# Altium footprint library General.PcbLib: 53 footprints (part 3 of 4)
Each footprint in its own frame and in the unit in brackets; x right, y up, seen from the top. Pads: shape width x height; smd on the part's side, far side on the other; paste and mask are expansions set on the pad; w line width, h text height; cw(c..) or ccw(c..) is an arc to the next point about the centre after c.
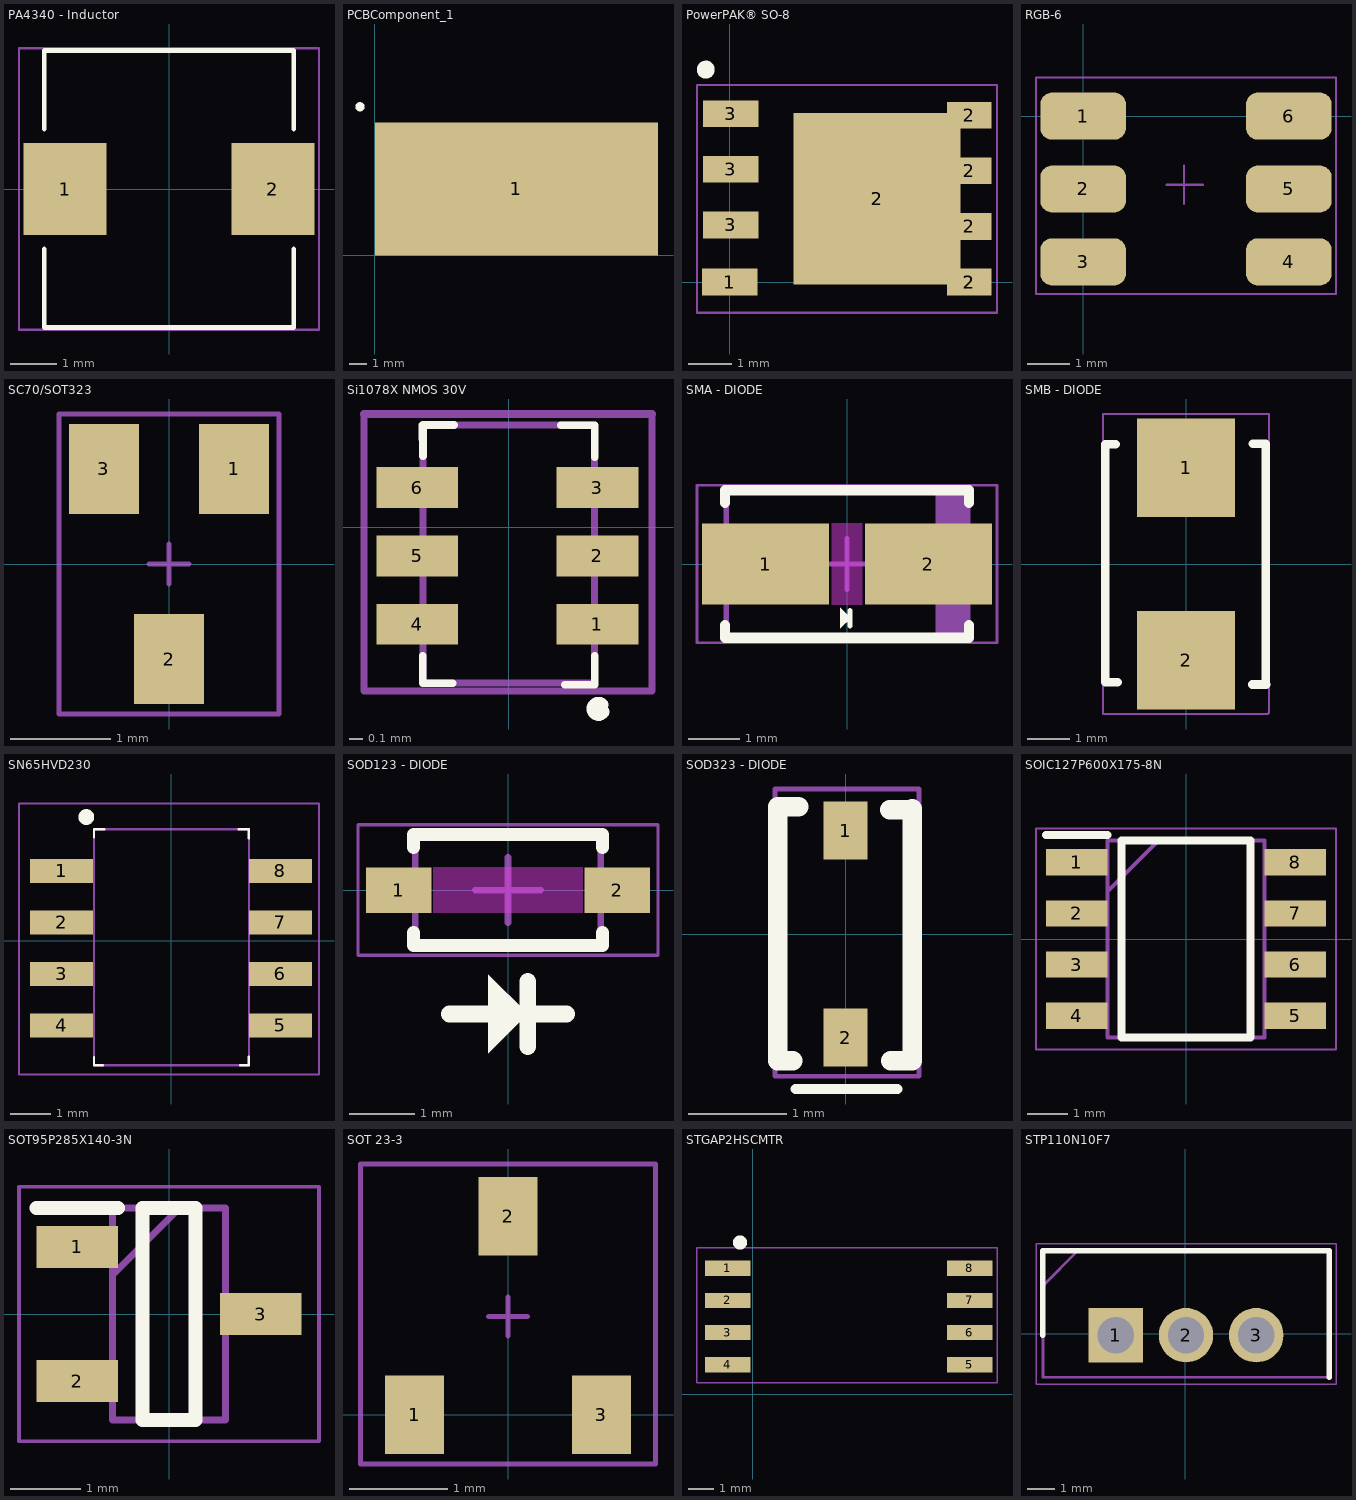
[diagram p2: the footprints below, top view; thin cyan lines are the x and y axes]

## PA4340 - Inductor [mm]
pads (2):
  rect 1.8x2 smd: 1(-2.25,0) 2(2.25,0)
Top Overlay:
  lines w0.1: -2.7,-1.3 -2.7,-3 2.7,-3 2.7,-1.3 ; -2.7,1.3 -2.7,3 2.7,3 2.7,1.3
Mechanical 15:
  lines w0.05: -3.25,-3.05 3.25,-3.05 3.25,3.05 -3.25,3.05 -3.25,0.4 -3.25,-3.05
3D body "User Library-PA4340-PM4340.STEP": height 2.7, standoff -0.15, extent -3,-2.7 3,2.7

## PCBComponent_1 [mm]
pads (1):
  rect 16.19x7.6 smd: 1(8.095,3.8)
Top Overlay:
  circle w0.3: c-0.85,8.5 r0.112

## PowerPAK® SO-8 [mm] "POWER MOSFET"
pads (10):
  rect 1.27x0.61 smd: 1(0,0) 3(0.017,1.305) 3(0.017,2.575) 3(0.017,3.845)
  rect 3.81x3.91 smd: 2(3.36,1.905)
  rect 1.02x0.61 smd: 2(5.465,0) 2(5.465,0) 2(5.465,1.27) 2(5.465,2.54) 2(5.465,3.81)
Top Overlay:
  lines w0.21: -0.452,4.87 ccw(c-0.55,4.85) -0.45,4.85
Mechanical 15:
  lines w0.051: -0.75,-0.7 6.1,-0.7 6.1,4.5 -0.75,4.5 -0.75,-0.7
3D body "Vishay_PowerPAK_SO-8.step": height 1.09, standoff 0, extent -0.425,-0.675 5.725,4.475

## RGB-6 [mm] "6 Pin RGB"
pads (6):
  rrect50% 2x1.1 smd: 1(0,0) 2(0,-1.7) 3(0,-3.4) 4(4.8,-3.4) 5(4.8,-1.7) 6(4.8,0)
Mechanical 15:
  lines w0.05: 1.95,-1.6 2.8,-1.6 ; 2.35,-2.05 2.35,-1.15 ; -1.1,-4.15 -1.1,0.9 5.9,0.9 5.9,-4.15 -1.1,-4.15
3D body "LED_WS2812_PLCC6_5.0x5.0mm_P1.6mm.step": height 1.85, standoff 0, extent -0.3,-4.15 5.1,0.85

## SC70/SOT323 [mm]
pads (3):
  rect 0.7x0.9 smd: 1(0.65,0.95) 2(0,-0.95) 3(-0.65,0.95)
Mechanical 15:
  lines w0.05: -0.2,0 0.2,0 ; 0,-0.2 0,0.2 ; -1.1,-1.5 1.1,-1.5 1.1,1.5 -1.1,1.5 -1.1,-1.5
3D body "SOT-323_SC-70.step": height 1.05, standoff 0, extent -1,-1 1,1

## Si1078X NMOS 30V [mm] "MOSFET 30V Vds 12V Vgs SC89-6"
pads (6):
  rect 0.6x0.3 smd mask+0.05: 1(0.65,-0.71) 2(0.65,-0.21) 3(0.65,0.29) 4(-0.67,-0.71) 5(-0.67,-0.21) 6(-0.67,0.29)
Top Overlay:
  lines w0.055: -0.63,-1.141 -0.63,-0.94 ; -0.625,-1.141 -0.41,-1.141 ; 0.382,0.747 0.63,0.747 0.63,0.515 ; 0.41,-1.153 0.63,-1.153 ; 0.63,-1.14 0.63,-0.94
  lines w0.06: -0.628,0.522 -0.63,0.75 -0.4,0.75
  lines w0.1: 0.681,-1.299 ccw(c0.658,-1.33) 0.69,-1.35
Mechanical 13:
  lines w0.051: -0.628,-1.14 -0.628,0.75 0.63,0.75 0.63,-1.14 -0.628,-1.14
Mechanical 15:
  lines w0.051: -1.06,0.83 -1.06,-1.2 1.05,-1.2 1.05,0.83
  lines w0.06: -1.06,0.83 1.05,0.83

## SMA - DIODE [mm] "Molded Diode, 2-Leads, Body 4.38x2.63mm, IPC Medium Density"
height 2.95
pads (2):
  rect 2.5x1.6 smd: 1(-1.6,0) 2(1.6,0)
Top Layer keep-out:
  region: -0.3,0.8 -0.3,-0.8 0.3,-0.8 0.3,0.8
Top Overlay:
  region: 0.071,-1.064 -0.13,-0.863 -0.13,-1.264
  lines w0.1: 0.06,-1.22 0.059,-0.92
  lines w0.2: -2.4,-1.2 -2.4,-1.45 2.4,-1.45 2.4,-1.2 ; -2.4,1.2 -2.4,1.45 2.4,1.45 2.4,1.2
Mechanical 13:
  rectangle: 1.736,-1.425 2.375,1.425
  lines w0.1: -2.375,-1.425 -2.375,1.425 2.375,1.425 2.375,-1.425 -2.375,-1.425
Mechanical 15:
  lines w0.05: -2.95,-1.55 -2.95,1.55 2.95,1.55 2.95,-1.55 -2.95,-1.55
  lines w0.1: -0.5,0 0.5,0 ; 0,-0.5 0,0.5
3D body "SMA - DIODE.step": height 2.95, standoff 0, extent -2.595,-1.425 2.595,1.425

## SMB - DIODE [mm]
pads (2):
  rect 2.3x2.3 smd: 1(0,2.25) 2(0,-2.25)
Top Overlay:
  lines w0.2: -1.65,2.8 -1.89,2.8 -1.89,-2.77 ; -1.6,-2.77 -1.89,-2.77 ; 1.55,-2.82 1.88,-2.82 1.87,-2.81 1.87,2.81 1.56,2.81 ; -1.89,-2.77 -1.89,-2.77
Mechanical 15:
  lines w0.05: -1.94,-3.51 -1.94,3.51 1.94,3.51 1.94,-3.48 1.91,-3.51 1.24,-3.51 -1.94,-3.51
3D body "D_SMB.step": height 2.15, standoff 0, extent -1.775,-2.65 1.775,2.65

## SN65HVD230 [mm] "3.3V CAN Transeiver with standby mode"
pads (8):
  rect 1.55x0.6 smd: 1(-2.7,1.72) 2(-2.7,0.45) 3(-2.7,-0.82) 4(-2.7,-2.09) 5(2.7,-2.09) 6(2.7,-0.82) 7(2.7,0.45) 8(2.7,1.72)
Top Overlay:
  circle w0.254: c-2.09,3.05 r0.067
  lines w0.055: -1.901,2.55 -1.901,2.746 ; -1.901,2.75 -1.65,2.75 ; -1.9,-3.071 -1.9,-2.87 ; -1.895,-3.071 -1.68,-3.071 ; 1.67,2.752 1.918,2.752 ; 1.7,-3.073 1.92,-3.073 ; 1.918,2.52 1.918,2.75 ; 1.92,-3.06 1.92,-2.86
Mechanical 13:
  lines w0.051: -1.9,-3.071 1.92,-3.071 1.92,2.749 -1.9,2.749 -1.9,-3.071
Mechanical 15:
  lines w0.051: -2.105,3.385 3.645,3.385 3.65,3.38 3.65,-3.3 -3.75,-3.3 -3.75,3.38 -3.746,3.384 -2.106,3.384 ; -2.106,3.384 -2.105,3.385

## SOD123 - DIODE [mm] "SOD, 2-Leads, Body 1.55x3.70mm, IPC Medium Density"
height 1.35
pads (2):
  rect 1x0.7 smd: 1(-1.675,0) 2(1.675,0)
Top Layer keep-out:
  region: -1.15,0.35 -1.15,-0.35 1.15,-0.35 1.15,0.35
Top Overlay:
  region: 0.3,-1.9 -0.3,-1.3 -0.3,-2.5
  lines w0.2: -1.45,-0.65 -1.45,-0.85 1.45,-0.85 1.45,-0.65 ; -1.45,0.65 -1.45,0.85 1.45,0.85 1.45,0.65
  lines w0.254: -0.9,-1.9 -0.3,-1.9 ; 0.3,-2.4 0.3,-1.4 ; 0.3,-1.9 0.9,-1.9
Mechanical 13:
  lines w0.1: -1.425,-0.85 -1.425,0.85 1.425,0.85 1.425,-0.85 -1.425,-0.85
Mechanical 15:
  lines w0.05: -2.3,-1 -2.3,1 2.3,1 2.3,-1 -2.3,-1
  lines w0.1: -0.5,0 0.5,0 ; 0,-0.5 0,0.5
3D body "SOD123 - DIODE.step": height 1.35, standoff 0, extent -1.85,-0.85 1.85,0.85

## SOD323 - DIODE [mm]
pads (2):
  rect 0.45x0.59 smd: 1(0,1.055) 2(0,-1.055)
Top Overlay:
  lines w0.1: -0.51,-1.58 0.53,-1.58
  lines w0.2: -0.54,-1.29 -0.69,-1.29 -0.69,1.3 -0.48,1.3 ; 0.45,1.27 0.67,1.27 0.68,1.28 0.68,-1.29 0.46,-1.29
Mechanical 15:
  lines w0.05: -0.72,-1.45 0.75,-1.45 0.75,1.48 -0.72,1.48 -0.72,-1.45
3D body "D_SOD-323.step": height 1.1, standoff 0, extent -0.625,-1.25 0.625,1.25

## SOIC127P600X175-8N [mm]
pads (8):
  rect 1.525x0.65 smd: 1(-2.712,1.905) 3(-2.712,-0.635) 4(-2.712,-1.905) 5(2.712,-1.905) 6(2.712,-0.635) 7(2.712,0.635) 8(2.712,1.905)
  rect 1.525x0.65 smd mask+0.102: 2(-2.712,0.635)
Top Overlay:
  lines w0.2: -3.475,2.58 -1.95,2.58 ; -1.6,-2.45 1.6,-2.45 1.6,2.45 -1.6,2.45 -1.6,-2.45
Mechanical 1:
  lines w0.1: -1.95,1.18 -0.68,2.45 ; -1.95,-2.45 -1.95,2.45 1.95,2.45 1.95,-2.45 -1.95,-2.45
Mechanical 15:
  lines w0.05: -3.725,-2.75 3.725,-2.75 3.725,2.75 -3.725,2.75 -3.725,-2.75
3D body "NE555DR.stp": height 1.75, standoff 0, extent -3,-2.45 3,2.45

## SOT95P285X140-3N [mm]
pads (3):
  rect 1.15x0.6 smd: 1(-1.3,0.95) 2(-1.3,-0.95) 3(1.3,0)
Top Overlay:
  lines w0.2: -1.875,1.5 -0.725,1.5 ; -0.375,-1.5 -0.375,1.5 0.375,1.5 0.375,-1.5 -0.375,-1.5
Mechanical 1:
  lines w0.1: -0.8,0.55 0.15,1.5 ; -0.8,-1.5 0.8,-1.5 0.8,1.5 -0.8,1.5 -0.8,-1.5
Mechanical 15:
  lines w0.05: -2.125,-1.8 -2.125,1.8 2.125,1.8 2.125,-1.8 -2.125,-1.8
3D body "AP1704DWG-7.stp": height 1.4, standoff 0, extent -1.425,-1.5 1.425,1.5

## SOT 23-3 [mm]
pads (3):
  rect 0.6x0.8 smd: 1(-0.95,0) 2(0,2.02) 3(0.95,0)
Mechanical 15:
  lines w0.05: -0.2,1 0.2,1 ; 0,0.8 0,1.2 ; -1.5,-0.5 1.5,-0.5 1.5,2.55 -1.5,2.55 -1.5,-0.5
3D body "SOT-23.step": height 1.2, standoff 0, extent -1.5,-0.25 1.5,2.25

## STGAP2HSCMTR [mm] "Galvanically Isolated 4A Single Gate Driver"
pads (8):
  rect 1.8x0.6 smd: 1(-0.978,4.98) 2(-0.978,3.71) 3(-0.978,2.44) 4(-0.978,1.17) 5(8.572,1.17) 6(8.572,2.44) 7(8.572,3.71) 8(8.572,4.98)
Top Overlay:
  circle w0.4: c-0.5,6 r0.08
Mechanical 15:
  lines w0.051: -2.2,0.45 -2.2,5.8 9.65,5.8 9.65,0.45 -2.2,0.45
3D body "SO-8W_STM.step": height 2.64, standoff 0, extent -1.416,0.044 9.1,6.09

## STP110N10F7 [mm] "N Channel MOSFET"
pads (3):
  rect 1.98x1.98 hole 1.32: 1(-2.528,-0.061)
  round 1.98 hole 1.32: 2(0.022,-0.061) 3(2.572,-0.061)
Top Overlay:
  lines w0.2: -5.178,-0.061 -5.178,3.009 5.222,3.009 5.222,-1.591
Mechanical 13:
  lines w0.1: -5.178,1.734 -3.903,3.009 ; -5.178,-1.591 -5.178,3.009 5.222,3.009 5.222,-1.591 -5.178,-1.591
Mechanical 15:
  lines w0.05: -5.428,-1.841 -5.428,3.259 5.472,3.259 5.472,-1.841 -5.428,-1.841
3D body "STP110N10F7.stp": height 19.22, standoff -18.2, extent -5.078,-1.591 5.122,3.009